# Altium footprint library MyPcbLib.PcbLib: 5 footprints
Each footprint in its own frame and in the unit in brackets; x right, y up, seen from the top. Pads: shape width x height; smd on the part's side, far side on the other; paste and mask are expansions set on the pad; w line width, h text height; cw(c..) or ccw(c..) is an arc to the next point about the centre after c.
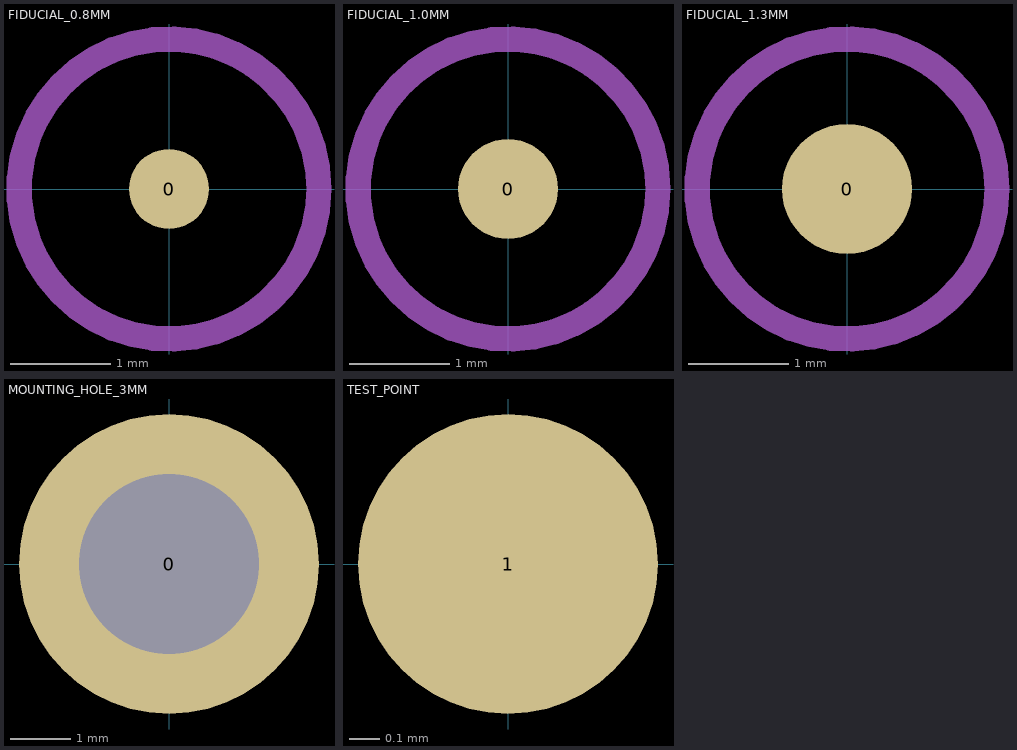
[diagram p0: the footprints below, top view; thin cyan lines are the x and y axes]

## FIDUCIAL_0.8MM [mm]
pads (1):
  round 0.8 smd mask+0.5: 0(0,0)
Keep Out:
  circle w0.254: c0,0 r1.5

## FIDUCIAL_1.0MM [mm]
pads (1):
  round 1 smd mask+0.5: 0(0,0)
Keep Out:
  circle w0.254: c0,0 r1.5

## FIDUCIAL_1.3MM [mm]
pads (1):
  round 1.3 smd mask+0.5: 0(0,0)
Keep Out:
  circle w0.254: c0,0 r1.5

## MOUNTING_HOLE_3MM [mm]
pads (1):
  round 5 hole 3: 0(0,0)

## TEST_POINT [mm]
pads (1):
  round 1 smd: 1(0,0)